# Altium integrated library CAP 1210 10uF 35V.IntLib: 1 symbol
Pins are listed as number, name and electrical type; pins without a type are passive.

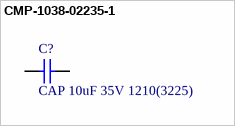
[diagram p0: symbol CMP-1038-02235-1]

## CMP-1038-02235-1
designator C?, comment CAP 10uF 35V 1210(3225)
CAP 10uF 35V ±20% 1210 (3225 Metric) Thickness 2.1mm SMD; Tolerance: Â±20%; Case-Metric: 3225; Case-EIA: 1210; Technology: SMT; Rated Voltage: 35 V; Value: 10uF; Max Thickness: 2.1 mm
footprint CAPC1210(3225)210_N (Chip Capacitor, Body 3.2x2.5mm, Height 2.1mm, IPC Medium Density)
footprint CAPC1210(3225)210_L (Chip Capacitor, Body 3.2x2.5mm, Height 2.1mm, IPC High Density)
footprint CAPC1210(3225)210_M (Chip Capacitor, Body 3.2x2.5mm, Height 2.1mm, IPC Low Density)
pins: 1, 2
1 alternate drawing of the same symbol